# EAGLE library part LCD (library ME433)
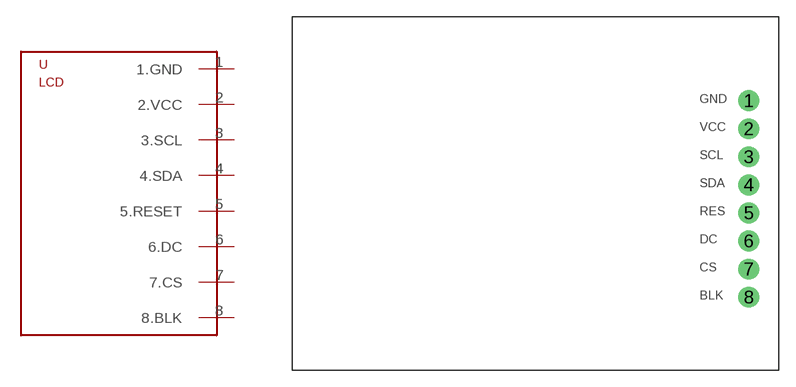
[diagram p10: symbol with the pads of LCD; footprint LCD]

Designator prefix -

## LCD  [LCD]
1  1.GND
2  2.VCC
3  3.SCL
4  4.SDA
5  5.RESET
6  6.DC
7  7.CS
8  8.BLK

## Footprint LCD (pad centres in mm)
drill 1.016 pad 1.88: 1 41.275,24.384; 2 41.275,21.844; 3 41.275,19.304; 4 41.275,16.764; 5 41.275,14.224; 6 41.275,11.684; 7 41.275,9.144; 8 41.275,6.604